# Altium schematic symbol library castellated_pads.SchLib: 2 symbols
Pins are listed as number, name and electrical type; pins without a type are passive.

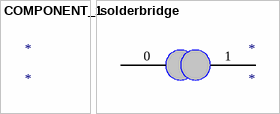
[diagram p0: symbols COMPONENT_1 to solderbridge]

## COMPONENT_1
designator *

## solderbridge
designator *
pins: 0, 1